# Altium schematic symbol library CL10A105KA8NNNC.SchLib: 1 symbol
Pins are listed as number, name and electrical type; pins without a type are passive.

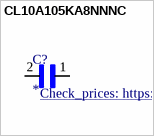
[diagram p0: symbol CL10A105KA8NNNC]

## CL10A105KA8NNNC
designator C?
1ÂµF Â±10% 25V Ceramic Capacitor X5R 0603 (1608 Metric); MP: CL10A105KA8NNNC; MF: Samsung Electro-Mechanics; Arrow_Electronics-Purchase-URL: https://snapeda.com/shop?store=Arrow+Electronics&id=3597973; Value: *; Arrow_Europe-Purchase-URL: https://snapeda.com/shop?store=Arrow+Europe&id=3597973; SnapEDA_Link: https://www.snapeda.com/parts/CL10A105KA8NNNC/Samsung%20Electro-Mechanics/view-part/3597973/?ref=snap; Digi-Key_Part_Number: 1276-1102-1-ND; Package: 0603 Samsung; DigiKey-Purchase-URL: https://snapeda.com/shop?store=DigiKey&id=3597973; Check_prices: https://www.snapeda.com/parts/CL10A105KA8NNNC/Samsung%20Electro-Mechanics/view-part/3597973/?ref=eda
pins: 1, 2